# Altium schematic symbol library res0805.SchLib: 1 symbol
Pins are listed as number, name and electrical type; pins without a type are passive.

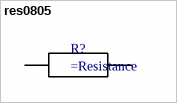
[diagram p0: symbol res0805]

## res0805
designator R?
Resistor 0805
footprint G-21_MUR
pins: 1, 2